# Altium schematic symbol library PowerModules.SchLib: 1 symbol
Pins are listed as number, name and electrical type; pins without a type are passive.

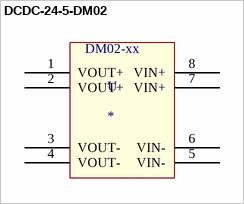
[diagram p0: symbol DCDC-24-5-DM02]

## DCDC-24-5-DM02
designator U
footprint DCDC-24-5-DM02
pins: 1 VOUT+, 2 VOUT+, 3 VOUT-, 4 VOUT-, 5 VIN-, 6 VIN-, 7 VIN+, 8 VIN+
text: DM02-xx